# Altium schematic symbol library digital_chips.SchLib: 9 symbols
Pins are listed as number, name and electrical type; pins without a type are passive.

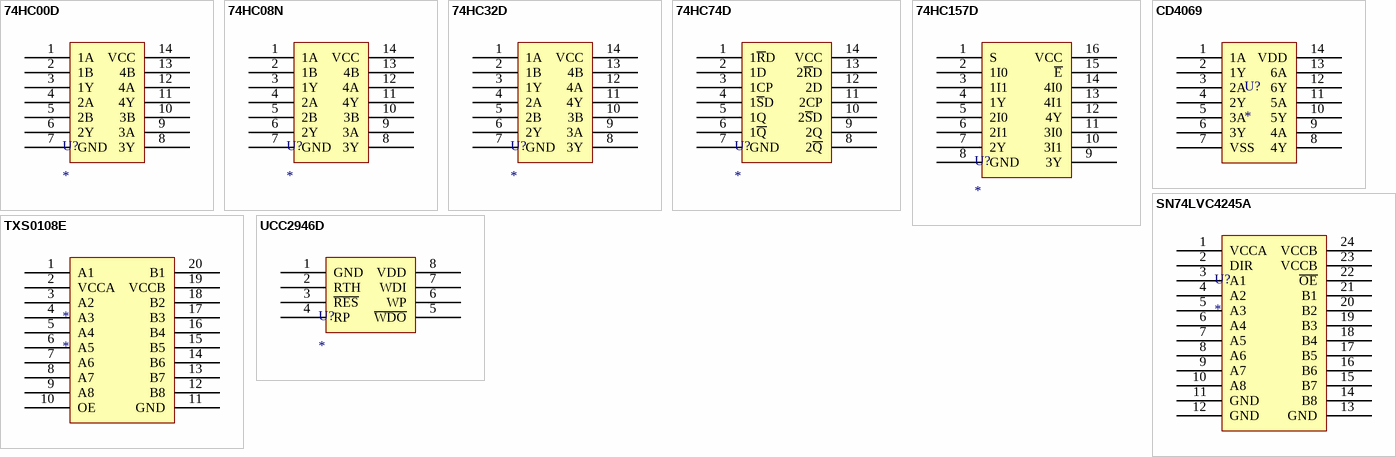
[diagram p0: symbols 74HC00D to UCC2946D]

## 74HC00D
designator U?
2输入与非门
footprint SOP14
pins: 1 1A, 2 1B, 3 1Y, 4 2A, 5 2B, 6 2Y, 7 GND, 8 3Y, 9 3A, 10 3B, 11 4Y, 12 4A, 13 4B, 14 VCC

## 74HC08N
designator U?
2输入与门
footprint SOP14
pins: 1 1A, 2 1B, 3 1Y, 4 2A, 5 2B, 6 2Y, 7 GND, 8 3Y, 9 3A, 10 3B, 11 4Y, 12 4A, 13 4B, 14 VCC

## 74HC32D
designator U?
2输入或门
footprint SOP14
pins: 1 1A, 2 1B, 3 1Y, 4 2A, 5 2B, 6 2Y, 7 GND, 8 3Y, 9 3A, 10 3B, 11 4Y, 12 4A, 13 4B, 14 VCC

## 74HC74D
designator U?
D触发器
footprint SOP14
pins: 1 1~{R}D, 2 1D, 3 1CP, 4 1~{S}D, 5 1Q, 6 1~{Q}, 7 GND, 8 2~{Q}, 9 2Q, 10 2~{S}D, 11 2CP, 12 2D, 13 2~{R}D, 14 VCC

## 74HC157D
designator U?
四路 2 输入多路复用器
footprint SOP16
pins: 1 S, 2 1I0, 3 1I1, 4 1Y, 5 2I0, 6 2I1, 7 2Y, 8 GND, 9 3Y, 10 3I1, 11 3I0, 12 4Y, 13 4I1, 14 4I0, 15 ~{E}, 16 VCC

## CD4069
designator U?
反相器
footprint SOP14
pins: 1 1A, 2 1Y, 3 2A, 4 2Y, 5 3A, 6 3Y, 7 VSS, 8 4Y, 9 4A, 10 5Y, 11 5A, 12 6Y, 13 6A, 14 VDD

## SN74LVC4245A
designator U?
电平转换器
footprint SSOP24 (8.3*7.8*1.6（长宽高）)
pins: 1 VCCA, 2 DIR, 3 A1, 4 A2, 5 A3, 6 A4, 7 A5, 8 A6, 9 A7, 10 A8, 11 GND, 12 GND, 13 GND, 14 B8, 15 B7, 16 B6, 17 B5, 18 B4, 19 B3, 20  B2, 21 B1, 22 ~{OE}, 23 VCCB, 24 VCCB

## TXS0108E
designator *
footprint SSOP20 (7.2*7.8*1.6（长宽高）)
pins: 1 A1, 2 VCCA, 3 A2, 4 A3, 5 A4, 6 A5, 7 A6, 8 A7, 9 A8, 10 OE, 11 GND, 12 B8, 13 B7, 14 B6, 15 B5, 16 B4, 17 B3, 18  B2, 19 VCCB, 20 B1

## UCC2946D
designator U?
复位监控芯片
footprint SOP8
pins: 1 GND, 2 RTH, 3 ~{RES}, 4 RP, 5 ~{WDO}, 6 WP, 7 WDI, 8 VDD